# Altium footprint library 2226051_이강민_STM32H743.PcbLib: 20 footprints (part 2 of 2)
Each footprint in its own frame and in the unit in brackets; x right, y up, seen from the top. Pads: shape width x height; smd on the part's side, far side on the other; paste and mask are expansions set on the pad; w line width, h text height; cw(c..) or ccw(c..) is an arc to the next point about the centre after c.
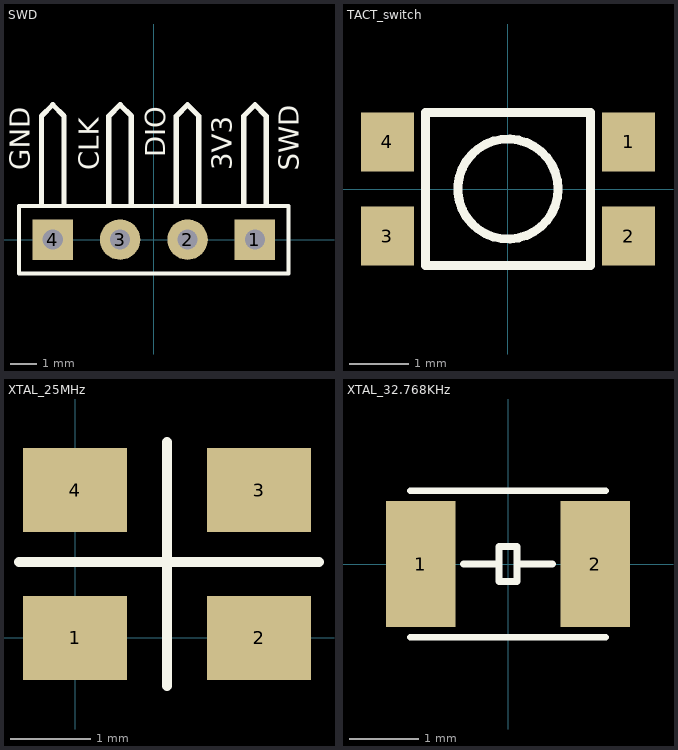
[diagram p1: the footprints below, top view; thin cyan lines are the x and y axes]

## SWD [mil]
pads (4):
  rect 60x60 hole 30 square: 1(150,0) 4(-150,0)
  round 60 hole 30 square: 2(50,0) 3(-50,0)
Top Overlay:
  lines w5.91: -200,-50 -200,50 200,50 200,-50 -200,-50
  lines w7.87: -166.67,51.18 -166.67,183.33 -150,200 -133.33,183.33 -133.33,51.57 ; -66.67,51.18 -66.67,183.33 -50,200 -33.33,183.33 -33.33,51.57 ; 33.33,51.18 33.33,183.33 50,200 66.67,183.33 66.67,51.57 ; 133.33,51.57 133.33,183.33 150,200 166.67,183.33 166.67,51.97
  text "SWD" at 215,102 h30
  text "3V3" at 115.44,102.67 h30
  text "CLK" at -81.41,102.67 h30
  text "DIO" at 17.02,122.35 h30
  text "GND" at -183.77,102.67 h30
3D body "1X4-2.54mm-header(SWD).STEP": height 336.22, standoff -118.11, extent -200,-50 200,50

## TACT_switch [mm] "KMR742NG LFS"
pads (4):
  rect 0.9x1 smd: 1(2.05,0.8) 2(2.05,-0.8) 3(-2.05,-0.8) 4(-2.05,0.8)
Top Overlay:
  circle w0.15: c0,0 r0.851
  lines w0.15: -1.4,-1.3 1.4,-1.3 1.4,1.3 -1.4,1.3 -1.4,-1.3
3D body "User Library-KMR242GLFS.STEP": height 1.92, standoff -0.02, extent -2.3,-1.4 2.3,1.4

## XTAL_25MHz [mm]
pads (4):
  rect 1.3x1.05 smd: 1(0,0) 2(2.3,0) 3(2.3,1.85) 4(0,1.85)
Top Overlay:
  lines w0.127: -0.7,0.95 3.05,0.95 ; 1.15,-0.6 1.15,2.45
3D body "User Library-ABM8.STEP": height 0.75, standoff -0.01, extent -0.457,-0.31 2.743,2.19

## XTAL_32.768KHz [mm]
pads (2):
  rect 1x1.8 smd: 1(-1.25,0) 2(1.25,0)
Top Overlay:
  lines w0.1: -1.4,-1.05 1.4,-1.05 ; -1.4,1.05 1.4,1.05 ; -0.64,0 -0.132,0 ; 0.635,0 0.127,0 ; 0.127,0 0.127,0.254 -0.127,0.254 -0.127,0.127 -0.127,-0.254 0.127,-0.254 0.127,0
3D body "User Library-KX-327NHT-1.STEP": height 0.71, standoff 0, extent -1.6,-0.75 1.6,0.75